# Altium footprint library CDDF406SL.PcbLib: 1 footprints
Each footprint in its own frame and in the unit in brackets; x right, y up, seen from the top. Pads: shape width x height; smd on the part's side, far side on the other; paste and mask are expansions set on the pad; w line width, h text height; cw(c..) or ccw(c..) is an arc to the next point about the centre after c.
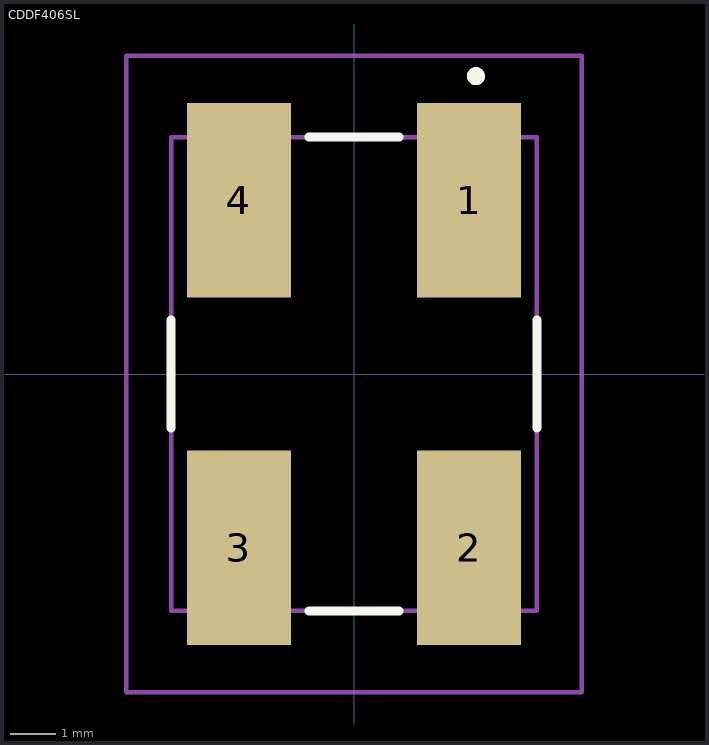
[diagram p0: the footprint, top view; thin cyan lines are the x and y axes]

## CDDF406SL [mm]
pads (4):
  rect 2.3x4.3 smd: 1(2.55,3.85) 2(2.55,-3.85) 3(-2.55,-3.85) 4(-2.55,3.85)
Top Overlay:
  lines w0.2: -4.05,-1.2 -4.05,1.2 ; -1,-5.25 1,-5.25 ; -1,5.25 1,5.25 ; 4.05,-1.2 4.05,1.2 ; 2.6,6.6 2.6,6.6 ; 2.6,6.6 ccw(c2.7,6.6) 2.8,6.6 ; 2.6,6.6 cw(c2.7,6.6) 2.8,6.6 ; 2.8,6.6 2.8,6.6
Mechanical 15:
  lines w0.1: -4.05,-5.25 4.05,-5.25 4.05,5.25 -4.05,5.25 -4.05,-5.25
Mechanical 20:
  lines w0.1: -5.05,-7.05 5.05,-7.05 5.05,7.05 -5.05,7.05 -5.05,-7.05
3D body "CD-DF406SL.stp": height 5.8, standoff -4.65, extent -10,-3.376 10,3.376